# Altium footprint library PartsDatabaseV12.PcbLib: 97 footprints (part 5 of 7)
Each footprint in its own frame and in the unit in brackets; x right, y up, seen from the top. Pads: shape width x height; smd on the part's side, far side on the other; paste and mask are expansions set on the pad; w line width, h text height; cw(c..) or ccw(c..) is an arc to the next point about the centre after c.
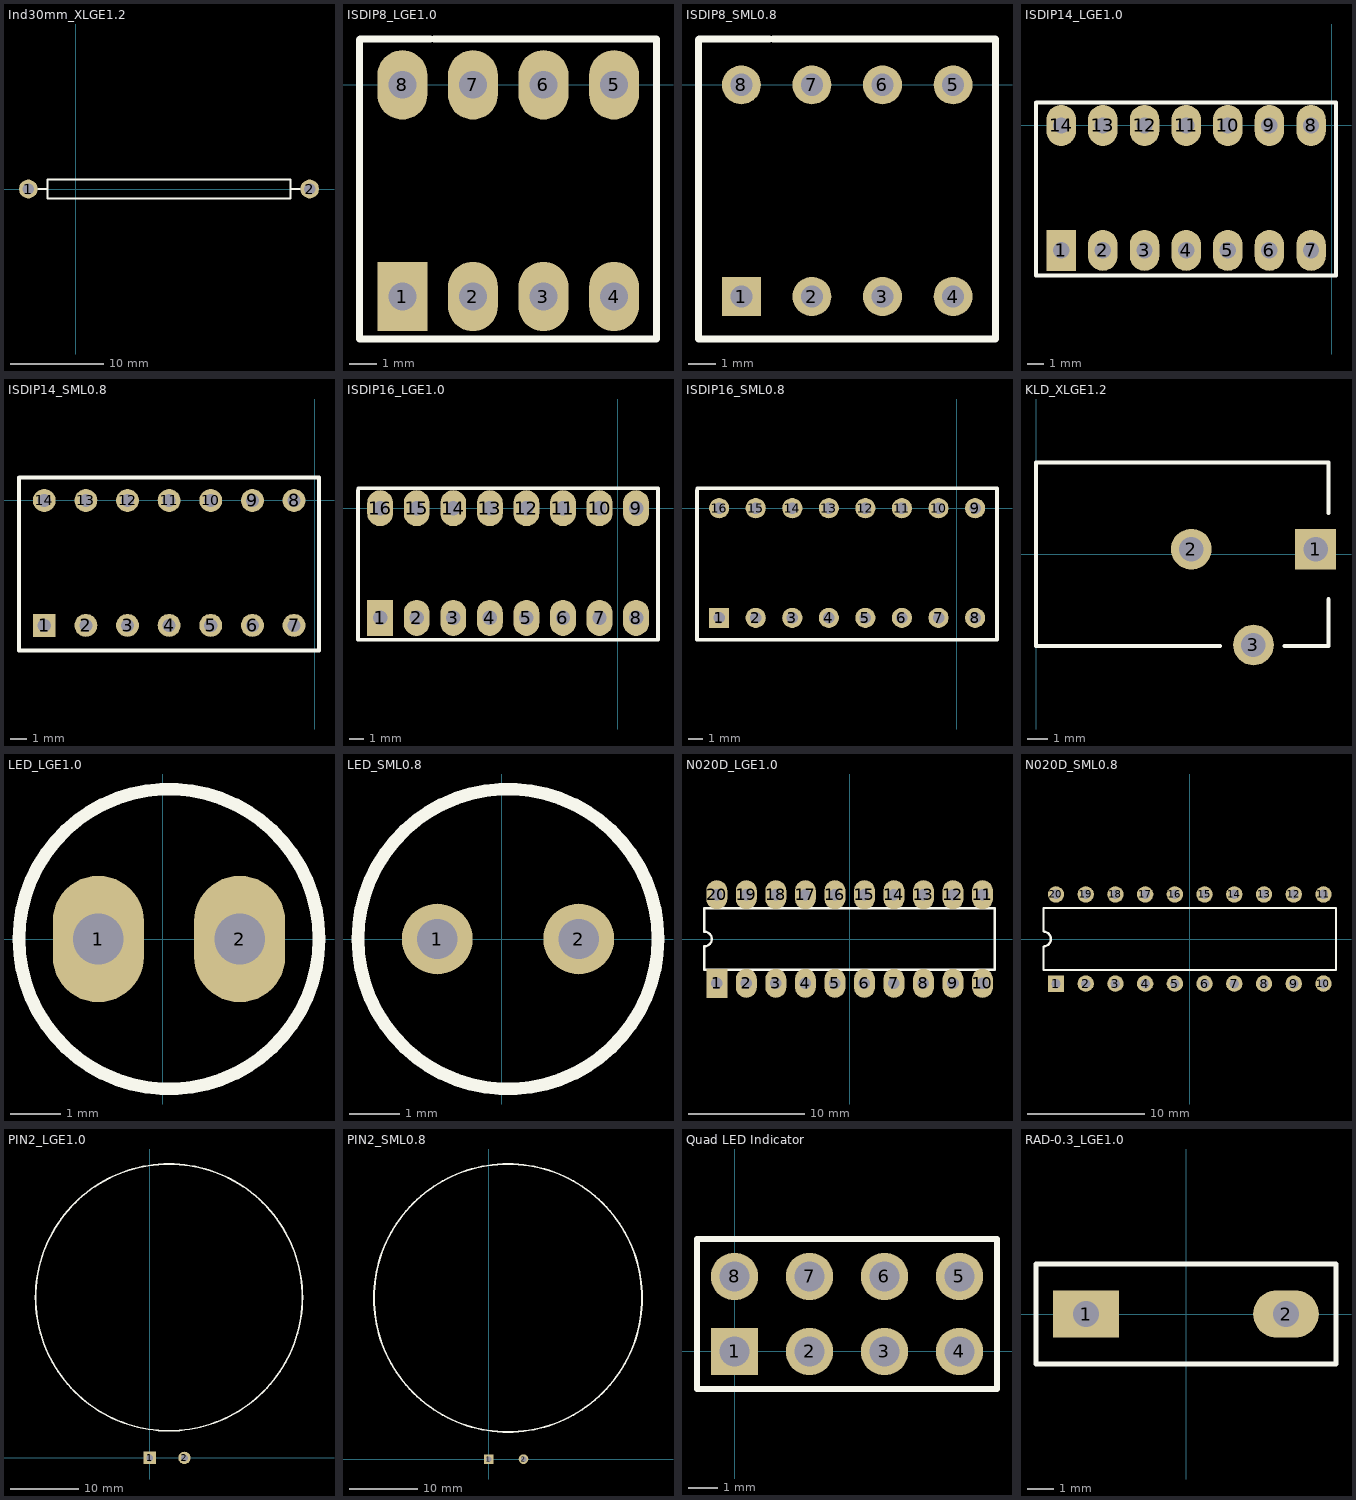
[diagram p4: the footprints below, top view; thin cyan lines are the x and y axes]

## Ind30mm_XLGE1.2 [mm] "Thru-Hole; 2 Leads"
pads (2):
  round 2 hole 1.2: 1(-5.08,0) 2(25.019,0)
Top Overlay:
  lines w0.2: -4.064,0 -3.048,0 ; 22.987,0 24.003,0 ; -3.048,-1.016 22.987,-1.016 22.987,1.016 -3.048,1.016 -3.048,-1.016

## ISDIP8_LGE1.0 [mm] "DIP; 8 Rectangular Pins; Row Space 7.62 mm; Pitch 2.54 mm"
height 11.94
pads (8):
  rect 1.8x2.5 hole 1: 1(-16.51,-7.62)
  oval 1.8x2.5 hole 1: 2(-13.97,-7.62) 3(-11.43,-7.62) 4(-8.89,-7.62) 5(-8.89,0) 6(-11.43,0) 7(-13.97,0) 8(-16.51,0)
Top Overlay:
  lines w0.25: -15.494,1.651 -18.034,1.651 -18.05,1.635 -18.05,-0.635 -18.05,-9.15 -7.366,-9.15 ; -15.379,1.651 -10.037,1.651 -7.366,1.651 -7.366,-9.144

## ISDIP8_SML0.8 [mm] "DIP; 8 Rectangular Pins; Row Space 7.62 mm; Pitch 2.54 mm"
height 11.94
pads (8):
  rect 1.4x1.4 hole 0.8: 1(-16.51,-7.62)
  round 1.4 hole 0.8: 2(-13.97,-7.62) 3(-11.43,-7.62) 4(-8.89,-7.62) 5(-8.89,0) 6(-11.43,0) 7(-13.97,0) 8(-16.51,0)
Top Overlay:
  lines w0.25: -15.494,1.651 -18.034,1.651 -18.05,1.635 -18.05,-0.635 -18.05,-9.15 -7.366,-9.15 ; -15.379,1.651 -10.037,1.651 -7.366,1.651 -7.366,-9.144

## ISDIP14_LGE1.0 [mm] "DIP; 14 Rectangular Pins; Row Space 7.62 mm; Pitch 2.54 mm"
height 11.94
pads (14):
  rect 1.8x2.5 hole 1: 1(-16.51,-7.62)
  oval 1.8x2.5 hole 1: 2(-13.97,-7.62) 3(-11.43,-7.62) 4(-8.89,-7.62) 5(-6.35,-7.62) 6(-3.81,-7.62) 7(-1.27,-7.62) 8(-1.27,0) 9(-3.81,0) 10(-6.35,0) 11(-8.89,0) 12(-11.43,0) 13(-13.97,0) 14(-16.51,0)
Top Overlay:
  lines w0.25: -18.05,1.27 -18.05,-0.635 -18.05,-9.15 0.254,-9.15 ; -18.034,1.397 0.254,1.397
  lines w0.254: 0.254,-9.144 0.254,1.397

## ISDIP14_SML0.8 [mm] "DIP; 14 Rectangular Pins; Row Space 7.62 mm; Pitch 2.54 mm"
height 11.94
pads (14):
  rect 1.4x1.4 hole 0.8: 1(-16.51,-7.62)
  round 1.4 hole 0.8: 2(-13.97,-7.62) 3(-11.43,-7.62) 4(-8.89,-7.62) 5(-6.35,-7.62) 6(-3.81,-7.62) 7(-1.27,-7.62) 8(-1.27,0) 9(-3.81,0) 10(-6.35,0) 11(-8.89,0) 12(-11.43,0) 13(-13.97,0) 14(-16.51,0)
Top Overlay:
  lines w0.25: -18.05,1.27 -18.05,-0.635 -18.05,-9.15 0.254,-9.15 ; -18.034,1.397 0.254,1.397
  lines w0.254: 0.254,-9.144 0.254,1.397

## ISDIP16_LGE1.0 [mm] "DIP; 16 Rectangular Pins; Row Space 7.62 mm; Pitch 2.54 mm"
height 11.94
pads (16):
  rect 1.8x2.5 hole 1: 1(-16.51,-7.62)
  oval 1.8x2.5 hole 1: 2(-13.97,-7.62) 3(-11.43,-7.62) 4(-8.89,-7.62) 5(-6.35,-7.62) 6(-3.81,-7.62) 7(-1.27,-7.62) 8(1.27,-7.62) 9(1.27,0) 10(-1.27,0) 11(-3.81,0) 12(-6.35,0) 13(-8.89,0) 14(-11.43,0) 15(-13.97,0) 16(-16.51,0)
Top Overlay:
  lines w0.25: -18.05,1.254 -18.05,-0.635 -18.05,-9.15 2.661,-9.15 ; -18.034,1.397 2.794,1.397 ; 2.794,-9.144 2.794,1.387

## ISDIP16_SML0.8 [mm] "DIP; 16 Rectangular Pins; Row Space 7.62 mm; Pitch 2.54 mm"
height 11.94
pads (16):
  rect 1.4x1.4 hole 0.8: 1(-16.51,-7.62)
  round 1.4 hole 0.8: 2(-13.97,-7.62) 3(-11.43,-7.62) 4(-8.89,-7.62) 5(-6.35,-7.62) 6(-3.81,-7.62) 7(-1.27,-7.62) 8(1.27,-7.62) 9(1.27,0) 10(-1.27,0) 11(-3.81,0) 12(-6.35,0) 13(-8.89,0) 14(-11.43,0) 15(-13.97,0) 16(-16.51,0)
Top Overlay:
  lines w0.25: -18.05,1.254 -18.05,-0.635 -18.05,-9.15 2.661,-9.15 ; -18.034,1.397 2.794,1.397 ; 2.794,-9.144 2.794,1.387

## KLD_XLGE1.2 [mm] "DC Power Jack, PCB Mount"
pads (3):
  rect 2x2 hole 1.2: 1(13.716,0.254)
  round 2 hole 1.2: 2(7.62,0.254) 3(10.668,-4.445)
Top Overlay:
  lines w0.2: 9.017,-4.5 0,-4.5 0,4.5 14.351,4.5 14.351,2.032 ; 12.192,-4.5 14.351,-4.5 14.351,-2.2

## LED_LGE1.0 [mm] "2.8 mm (typ)"
pads (2):
  oval 1.8x2.5 hole 1: 1(-1.27,0) 2(1.524,0)
Top Overlay:
  circle w0.254: c0.127,0 r2.965

## LED_SML0.8 [mm] "2.8 mm (typ)"
pads (2):
  round 1.4 hole 0.8: 1(-1.27,0) 2(1.524,0)
Top Overlay:
  circle w0.254: c0.127,0 r2.965

## N020D_LGE1.0 [mm] "DIP; 20 Leads; Row Spacing 7.62 mm; Pitch 2.54 mm"
height 5.08
pads (20):
  rect 1.8x2.5 hole 1: 1(-11.43,-3.81)
  oval 1.8x2.5 hole 1: 2(-8.89,-3.81) 3(-6.35,-3.81) 4(-3.81,-3.81) 5(-1.27,-3.81) 6(1.27,-3.81) 7(3.81,-3.81) 8(6.35,-3.81) 9(8.89,-3.81) 10(11.43,-3.81) 11(11.43,3.81) 12(8.89,3.81) 13(6.35,3.81) 14(3.81,3.81) 15(1.27,3.81) 16(-1.27,3.81) 17(-3.81,3.81) 18(-6.35,3.81) 19(-8.89,3.81) 20(-11.43,3.81)
Top Overlay:
  lines w0.2: -12.5,-2.65 -12.5,-0.635 ccw(c-12.5,0) -12.5,0.635 -12.5,2.65 12.5,2.65 12.5,-2.65 -12.5,-2.65

## N020D_SML0.8 [mm] "DIP; 20 Leads; Row Spacing 7.62 mm; Pitch 2.54 mm"
height 5.08
pads (20):
  rect 1.4x1.4 hole 0.8: 1(-11.43,-3.81)
  round 1.4 hole 0.8: 2(-8.89,-3.81) 3(-6.35,-3.81) 4(-3.81,-3.81) 5(-1.27,-3.81) 6(1.27,-3.81) 7(3.81,-3.81) 8(6.35,-3.81) 9(8.89,-3.81) 10(11.43,-3.81) 11(11.43,3.81) 12(8.89,3.81) 13(6.35,3.81) 14(3.81,3.81) 15(1.27,3.81) 16(-1.27,3.81) 17(-3.81,3.81) 18(-6.35,3.81) 19(-8.89,3.81) 20(-11.43,3.81)
Top Overlay:
  lines w0.2: -12.5,-2.65 -12.5,-0.635 ccw(c-12.5,0) -12.5,0.635 -12.5,2.65 12.5,2.65 12.5,-2.65 -12.5,-2.65

## PIN2_LGE1.0 [mm] "Photosensitive Diode; 2 Leads"
pads (2):
  rect 1.8x1.8 hole 1: 1(0,0)
  round 1.8 hole 1: 2(5.08,0)
Top Overlay:
  circle w0.254: c2.819,23.495 r19.533

## PIN2_SML0.8 [mm] "Photosensitive Diode; 2 Leads"
pads (2):
  rect 1.4x1.4 hole 0.8: 1(0,0)
  round 1.4 hole 0.8: 2(5.08,0)
Top Overlay:
  circle w0.254: c2.819,23.495 r19.533

## Quad LED Indicator [mm]
pads (8):
  rect 1.6x1.6 hole 1: 1(0,0)
  round 1.6 hole 1: 2(2.54,0) 3(5.08,0) 4(7.62,0) 5(7.62,2.54) 6(5.08,2.54) 7(2.54,2.54) 8(0,2.54)
Top Overlay:
  lines w0.2: -1.27,-1.27 -1.27,3.81 8.89,3.81 8.89,-1.27 -1.27,-1.27

## RAD-0.3_LGE1.0 [mm] "Radial Cap, Thru-Hole; 2 Leads; 0.3 in Pin Spacing"
height 6
pads (2):
  rect 2.5x1.8 hole 1: 1(-3.81,0)
  oval 2.5x1.8 hole 1: 2(3.81,0)
Top Overlay:
  lines w0.2: -5.715,-1.905 5.715,-1.905 5.715,1.905 -5.715,1.905 -5.715,-1.905